# Altium footprint library mb1246b.brd.PcbLib: 73 footprints (part 6 of 6)
Each footprint in its own frame and in the unit in brackets; x right, y up, seen from the top. Pads: shape width x height; smd on the part's side, far side on the other; paste and mask are expansions set on the pad; w line width, h text height; cw(c..) or ccw(c..) is an arc to the next point about the centre after c.
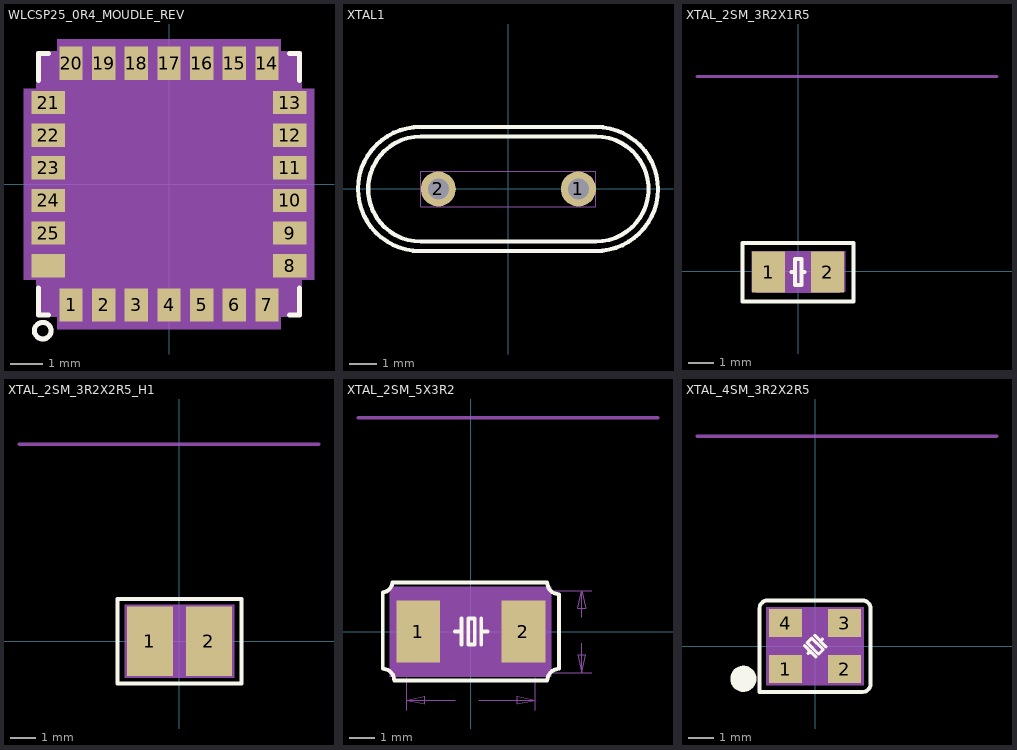
[diagram p5: the footprints below, top view; thin cyan lines are the x and y axes]

## WLCSP25_0R4_MOUDLE_REV [mil] "WLCSP25_0R4_MOUDLE_REV"
pads (26):
  rect 28x40 smd: 1(-118.11,-145.67) 2(-78.74,-145.67) 3(-39.37,-145.67) 4(0,-145.67) 5(39.37,-145.67) 6(78.74,-145.67) 7(118.11,-145.67) 14(118.11,145.67) 15(78.74,145.67) 16(39.37,145.67) 17(0,145.67) 18(-39.37,145.67) 19(-78.74,145.67) 20(-118.11,145.67)
  rect 40x28 smd: 8(145.67,-98.43) 9(145.67,-59.06) 10(145.67,-19.69) 11(145.67,19.69) 12(145.67,59.06) 13(145.67,98.43) 21(-145.67,98.43) 22(-145.67,59.06) 23(-145.67,19.69) 24(-145.67,-19.69) 25(-145.67,-59.06) ""(-145.67,-98.43)
Top Overlay:
  circle w6: c-152.23,-176.7 r10
  lines w6: -157.48,-125 -157.48,-157.48 -145,-157.48 ; -157.48,125 -157.48,157.48 -145,157.48 ; 145,-157.48 157.48,-157.48 157.48,-125 ; 145,157.48 157.48,157.48 157.48,125
  text ".Designator" at 225,-157 h35
Top 3D Body:
  region: 175,-115 175,115 160,115 160,160 135,160 135,175 -135,175 -135,160 -160,160 -160,115 -175,115 -175,-115 -160,-115 -160,-160 -135,-160 -135,-175 135,-175 135,-160 160,-160 160,-115
Top Component Center:
  circle w1: c0,0 r11.81
  circle w1: c0,0 r11.81
  lines w1: -15.75,0 15.75,0 -15.75,0 ; 0,-15.75 0,15.75 0,-15.75
Top Assembly:
  circle w5: c-152,-176 r10
  lines w5: -157.48,-157.48 -157.48,157.48 157.48,157.48 157.48,-157.48 -157.48,-157.48
Mechanical42:
  text "24" at -132.87,-19.69 h16
  text "21" at -132.87,98.43 h16
  text "25" at -132.87,-59.06 h16
  text "22" at -132.87,59.06 h16
  text "10" at 158.47,-19.69 h16
  text "17" at 12.8,145.67 h16
  text "14" at 130.91,145.67 h16
  text "4" at 6.4,-145.67 h16
  text "7" at 124.51,-145.67 h16
  text "6" at 85.14,-145.67 h16
  text "8" at 152.07,-98.43 h16
  text "2" at -72.34,-145.67 h16
  text "3" at -32.97,-145.67 h16
  text "11" at 158.47,19.69 h16
  text "13" at 158.47,98.43 h16
  text "9" at 152.07,-59.06 h16
  text "12" at 158.47,59.06 h16
  text "5" at 45.77,-145.67 h16
  text "16" at 52.17,145.67 h16
  text "1" at -111.71,-145.67 h16
  text "20" at -105.31,145.67 h16
  text "19" at -65.94,145.67 h16
  text "18" at -26.57,145.67 h16
  text "15" at 91.54,145.67 h16
  text "23" at -132.87,19.69 h16
3D body: height 150, standoff 0, extent -175,-175 175,175

## XTAL1 [mil] "XTAL1"
pads (2):
  round 50 hole 30: 1(100,0) 2(-100,0)
Top Overlay:
  lines w6: -126,-88.58 cw(c-126,0) -125.09,88.58 125,88.58 cw(c125,0) 124.07,-88.58 -126,-88.58 ; -125,-75 cw(c-125,0) -125,75 125,75 cw(c125,0) 125,-75 -125,-75
Top 3D Body:
  lines w1: -125,-25 125,-25 125,25 -125,25 -125,-25
Top Assembly:
  lines w1: -125,-25 125,-25 125,25 -125,25 -125,-25
  text ".Designator" at -217.58,149.58 h60
Mechanical42:
  text "1" at 93.6,0 h16
  text "2" at -106.4,0 h16

## XTAL_2SM_3R2X1R5 [mil] "XTAL_2SM_3R2X1R5"
pads (2):
  rect 51x63 smd: 1(-45.78,-1) 2(44.78,-1)
Top Overlay:
  lines w6: -10.5,-1 -5.5,-1 ; 4.5,-1 9.5,-1 ; -85.5,-46 84.5,-46 84.5,44 -85.5,44 -85.5,-46 ; -5.5,-21 4.5,-21 4.5,19 -5.5,19 -5.5,-21
  text ".Designator" at -30.5,114 h35
Top Courtyard:
  dashed: -71.5,-31 71.5,-31 71.5,31 -71.5,31
Top 3D Body:
  region: -71.5,-31 71.5,-31 71.5,31 -71.5,31
Top Component Center:
  circle w1: c-0.5,-1 r11.81
  circle w1: c-0.5,-1 r11.81
  lines w1: -16.25,-1 15.25,-1 -16.25,-1 ; -0.5,-16.75 -0.5,14.75 -0.5,-16.75
Top Assembly:
  lines w5: -63.49,-30.53 62.49,-30.53 62.49,28.53 -63.49,28.53 -63.49,-30.53
  text "NX3215SA-32.768KHZ-EXS00A-MU00526" at -391.5,-111 h30
Mechanical42:
  text "1" at -52.18,-1 h16
  text "2" at 38.38,-1 h16
Mechanical44:
  lines w5: -155.5,299 304.5,299
  text "Sofer Lib Information" at -155.5,309 h25
  text "Ref PN: FC-135" at -125.5,259 h25
  text "Creat : Yuki" at -125.5,219 h25
  text "Date  : 2008-04-02" at -125.5,179 h25
  text "Rev   : A1" at -125.5,139 h25
  text "Remark: 32.768KHz" at -125.5,99 h25
Mechanical45:
  text "XTAL_2SM_3R2X1R5" at -147.5,-101 h30
Mechanical48:
  lines w1: -64.5,-32 62.5,-32 62.5,29 -64.5,29 -64.5,-32
Mechanical49:
  text "OK" at -18.5,-17.67 h35
3D body: height 150, standoff 0, extent -71.5,-31 71.5,31

## XTAL_2SM_3R2X2R5_H1 [mil] "XTAL_2SM_3R2X2R5_H1"
pads (2):
  rect 71x106 smd: 1(-45.28,0) 2(45.28,0)
Top Overlay:
  lines w6: -95,-65 -95,65 95,65 95,-65 -95,-65
  text ".Designator" at 25,120 h35
Top 3D Body:
  region: 84,-56 84,56 -84,56 -84,-56
Top Component Center:
  circle w1: c0,0 r11.81
  lines w1: -15.75,0 15.75,0 ; 0,-15.75 0,15.75
Top Assembly:
  lines w5: -62.99,-37.4 cw(c-63,-49.21) -51.19,-49 ; -62.99,-36.97 -62.99,37 ; -63,37.4 ccw(c-62.99,49.21) -51.18,49.02 ; -51.18,49.21 50.79,49.21 ; -50,-49.21 50,-49.21 ; 51.18,-49 cw(c62.99,-49.21) 62.99,-37.4 ; 51.18,49 ccw(c62.99,49.21) 63,37.4 ; 62.99,-37 62.99,36.97
  text "NX3225GD-8.000M-EXS00A-CG04874" at -20,-495 h30
Mechanical42:
  text "1" at -45.28,-6.4 h16
  text "2" at 45.28,-6.4 h16
Mechanical44:
  lines w5: -246,302 214,302
  text "Remark: D054-055A2" at -216,102 h25
  text "Rev   : A1" at -216,142 h25
  text "Date  : 2015-01-07" at -216,182 h25
  text "Creat : Ziv" at -216,222 h25
  text "Ref PN: NX3225GD-8MHZ-STD-CRA-3" at -216,262 h25
  text "Sofer Lib Information" at -246,312 h25
Mechanical45:
  text "XTAL_2SM_3R2X2R5_H1" at 15,-348 h30
Mechanical46:
  text "NO" at 0,-28 h35
3D body: height 150, standoff 0, extent -84,-56 84,56

## XTAL_2SM_5X3R2 [mil] "XTAL_2SM_5X3R2"
pads (2):
  rect 67x95 smd: 1(-80.21,0) 2(81.21,0)
Top Overlay:
  lines w6: -134.5,-57 -134.5,60 ccw(c-137,77.5) -119.5,75 117.5,75 ; -132,-57.5 cw(c-134.5,-75) -117,-72.5 ; -116.5,-75 117.5,-75 ; -23.5,0 -13.5,0 ; -13.5,-20 -13.5,20 ; 16.5,-20 16.5,20 ; 16.5,0 26.5,0 ; 118,-72.5 cw(c135.5,-75) 133,-57.5 ; 118,72.5 ccw(c135.5,75) 133,57.5 ; 135.5,-57 135.5,57 ; -3.5,-20 -3.5,20 6.5,20 6.5,-20 -3.5,-20
  text ".Designator" at 46.5,-123 h35
Top 3D Body:
  region: -123.5,-68.9 123.5,-68.9 123.5,68.9 -123.5,68.9
Top Component Center:
  circle w1: c0.5,0 r11.81
  circle w1: c0.5,0 r11.81
  lines w1: -15.25,0 16.25,0 -15.25,0 ; 0.5,-15.75 0.5,15.75 0.5,-15.75
Top Assembly:
  lines w5: -97.93,-62.99 -97.93,62.99 98.93,62.99 98.93,-62.99 -97.93,-62.99
  text "X53T-C20SSA-25.000MHz" at -4.5,-430 h30
Mechanical42:
  text "1" at -80.21,-6.4 h16
  text "2" at 81.21,-6.4 h16
Mechanical44:
  lines w5: -172.5,328 287.5,328
  text "Remark: ***" at -142.5,128 h25
  text "Rev   : A1" at -142.5,168 h25
  text "Date  : 2008-12-11" at -142.5,208 h25
  text "Creat : Sofer Tech" at -142.5,248 h25
  text "Ref PN: ***" at -142.5,288 h25
  text "Sofer Lib Information" at -172.5,338 h25
Mechanical45:
  text "XTAL_2SM_5X3R2" at -6.5,-339 h30
Mechanical47:
  lines w1: -97.93,-120.75 -97.93,-70.87 ; -23.5,-105 -97.93,-105 ; 12.5,-105 98.93,-105 ; 98.93,-120.75 98.93,-70.87 ; 106.8,-62.99 186.25,-62.99 ; 106.8,62.99 186.25,62.99 ; 170.5,-18 170.5,-62.99 ; 170.5,22 170.5,62.99 ; -97.93,-105 -70.37,-110.91 -70.37,-99.09 -97.93,-105 ; 98.93,-105 71.37,-99.09 71.37,-110.91 98.93,-105 ; 170.5,-62.99 176.41,-35.43 164.59,-35.43 170.5,-62.99 ; 170.5,62.99 164.59,35.43 176.41,35.43 170.5,62.99
  text "3.2" at 152.5,-6 h16
  text "5" at -11.5,-113 h16
Mechanical49:
  text "OK" at -6.5,-49.67 h35
3D body: height 150, standoff 0, extent -123.5,-68.9 123.5,68.9

## XTAL_4SM_3R2X2R5 [mil] "XTAL_4SM_3R2X2R5"
pads (4):
  rect 51x43 smd: 1(-45.19,-35.28) 2(45.19,-35.28) 3(45.19,35.28) 4(-45.19,35.28)
Top Overlay:
  circle w20: c-110,-50 r10
  lines w5: -16.11,0.76 -4.75,-10.6 ; -10.47,-10.76 -7.53,-7.81 1.05,-16.39 ; -0.46,16.41 16.69,-0.75 ; 8.83,8.54 11.08,10.79 ; -11.86,5 5.29,-12.15 12.36,-5.07 -4.79,12.07 -11.86,5
  lines w6: -85,-70 73.19,-70 ccw(c73.19,-58.19) 85,-58.19 85,58.19 ccw(c73.19,58.19) 73.19,70 -73.19,70 ccw(c-73.19,58.19) -85,58.19 -85,-70
Top 3D Body:
  region: -75,60 -75,-60 75,-60 75,60
Top Component Center:
  circle w1: c0,0 r11.81
  circle w1: c0,0 r11.81
  lines w1: -15.75,0 15.75,0 -15.75,0 ; 0,-15.75 0,15.75 0,-15.75
Top Assembly:
  circle w20: c-45,-25 r10
  lines w5: -62.99,-37.4 ccw(c-51.18,-37.4) -51.18,-49.21 51.18,-49.21 ccw(c51.18,-37.4) 62.99,-37.4 62.99,37.4 ccw(c51.18,37.4) 51.18,49.21 -51.18,49.21 ccw(c-51.18,37.4) -62.99,37.4 -62.99,-37.4
  text "NX3225HA-25MHz-EXS00A-CH00343" at 353,-135 h30
  text ".Designator" at 24,0 h30
Mechanical42:
  text "1" at -38.79,-35.28 h16
  text "3" at 51.59,35.28 h16
  text "4" at -38.79,35.28 h16
  text "2" at 51.59,-35.28 h16
Mechanical44:
  lines w5: -181,322 279,322
  text "Sofer Lib Information" at -181,332 h25
  text "Ref PN: FA-238" at -151,282 h25
  text "Creat : Yuki" at -151,242 h25
  text "Date  : 2009-04-09" at -151,202 h25
  text "Rev   : A2" at -151,162 h25
  text "Remark: ***" at -151,122 h25
Mechanical45:
  text "XTAL_4SM_3R2X2R5" at 212,-130 h30
Mechanical49:
  text "OK" at 28,0 h35
3D body: height 150, standoff 0, extent -75,-60 75,60